# EAGLE library part ADXL345 (library inklinometer)
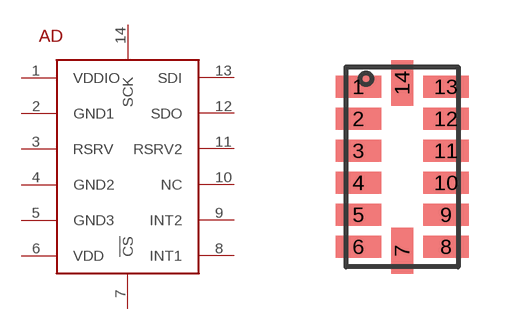
[diagram p5: symbol with the pads of LGA14_ADXL; footprint LGA14_ADXL]

Designator prefix AD

## ADXL345  [LGA14_ADXL]
1  VDDIO  pwr
2  GND1
3  RSRV
4  GND2  pwr
5  GND3  pwr
6  VDD
7  !CS
8  INT1
9  INT2
10  NC
11  RSRV2
12  SDO
13  SDI
14  SCK

## Footprint LGA14_ADXL (pad centres in mm)
smd 1.145 x 0.55: 1 -1.093,2; 2 -1.093,1.2; 3 -1.093,0.4; 4 -1.093,-0.4; 5 -1.093,-1.2; 6 -1.093,-2; 8 1.097,-2; 9 1.097,-1.2; 10 1.097,-0.4; 11 1.097,0.4; 12 1.097,1.2; 13 1.097,2
smd 0.55 x 1.145: 7 0,-2.098; 14 0,2.098